# Altium schematic symbol library Header-2X4.Schlib: 1 symbol
Pins are listed as number, name and electrical type; pins without a type are passive.

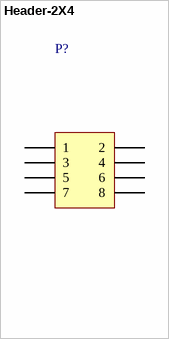
[diagram p0: symbol Header-2X4]

## Header-2X4
designator P?
Header-2X4
pins: 1, 2, 3, 4, 5, 6, 7, 8